# EAGLE library part HIROSE_DF17_30_ONESIDE (library greghale_eib_preamp)
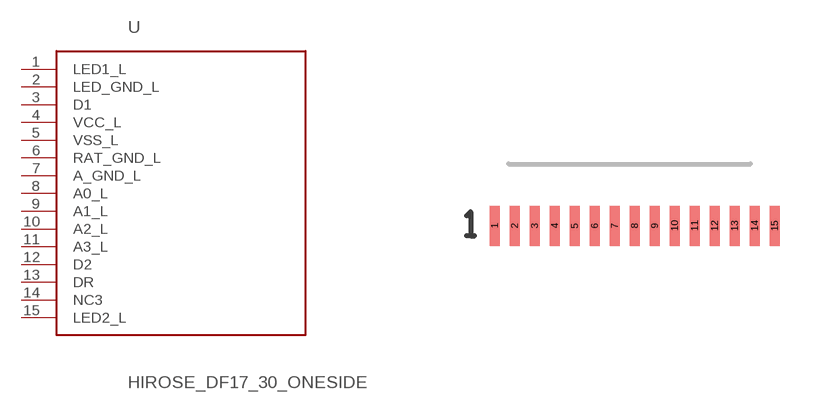
[diagram p7: symbol with the pads of HIROSE_DF17_30_ONESIDE; footprint HIROSE_DF17_30_ONESIDE]

Designator prefix -

## HIROSE_DF17_30_ONESIDEOS  [HIROSE_DF17_30_ONESIDE]
1  LED1_L
2  LED_GND_L
3  D1
4  VCC_L
5  VSS_L
6  RAT_GND_L
7  A_GND_L
8  A0_L
9  A1_L
10  A2_L
11  A3_L
12  D2
13  DR
14  NC3
15  LED2_L

## Footprint HIROSE_DF17_30_ONESIDE (pad centres in mm)
Sidemount pattern for a Hirose DF17 connector with bent pins.
smd 0.25 x 1: 1 -3.5,0.05; 2 -3,0.05; 3 -2.5,0.05; 4 -2,0.05; 5 -1.5,0.05; 6 -1,0.05; 7 -0.5,0.05; 8 0,0.05; 9 0.5,0.05; 10 1,0.05; 11 1.5,0.05; 12 2,0.05; 13 2.5,0.05; 14 3,0.05; 15 3.5,0.05